# EAGLE library part 6N16B-V (library FHD-RETRO)
6N16B(-V) Sub-miniature dual-triode
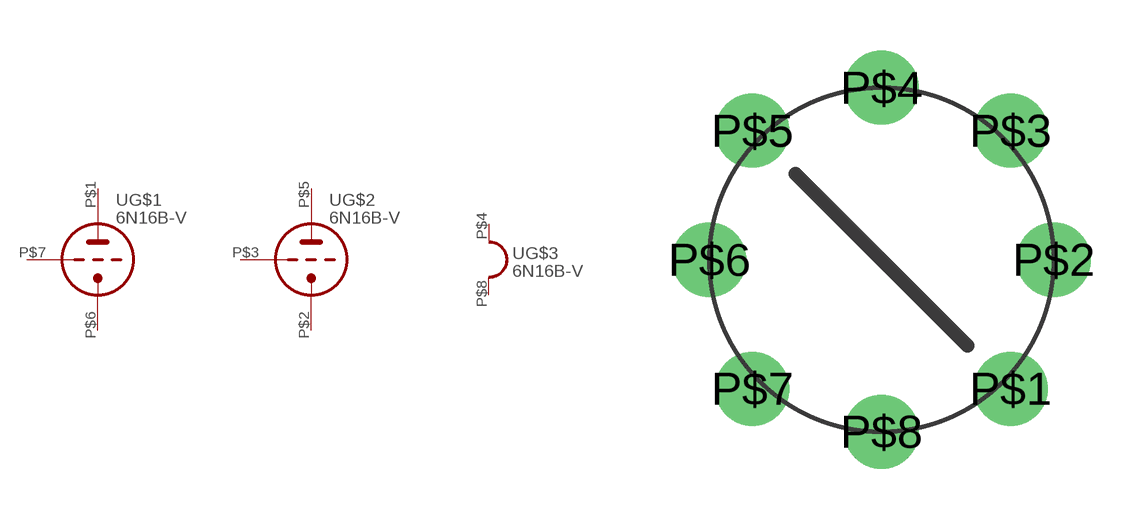
[diagram p3: symbol with the pads of 6N16B-V; footprint 6N16B-V]

Designator prefix -; gates G$1=TRIODE G$2=TRIODE G$3=HEATER_1

## 6N16B-V  [6N16B-V]
P$1  G$1:TA  pas
P$2  G$2:TK  pas
P$3  G$2:TG  pas
P$4  G$3:H1  pas
P$5  G$2:TA  pas
P$6  G$1:TK  pas
P$7  G$1:TG  pas
P$8  G$3:H2  pas

## Footprint 6N16B-V (pad centres in mm)
drill 1 pad 2.184: P$1 3.81,-3.81; P$2 5.08,0; P$3 3.81,3.81; P$4 0,5.08; P$5 -3.81,3.81; P$6 -5.08,0; P$7 -3.81,-3.81; P$8 0,-5.08